# Altium schematic symbol library n-mosfet_4.Schlib: 1 symbol
Pins are listed as number, name and electrical type; pins without a type are passive.

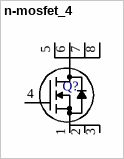
[diagram p0: symbol n-mosfet_4]

## n-mosfet_4
designator Q?  (value not drawn)
N-Channel MOSFET w/ Body Diode son8
pins: 1 S, 2 S, 3 S, 4 G, 5 D, 6 D, 7 D, 8 D